# EAGLE library part PIC18F4680 (library microchip)
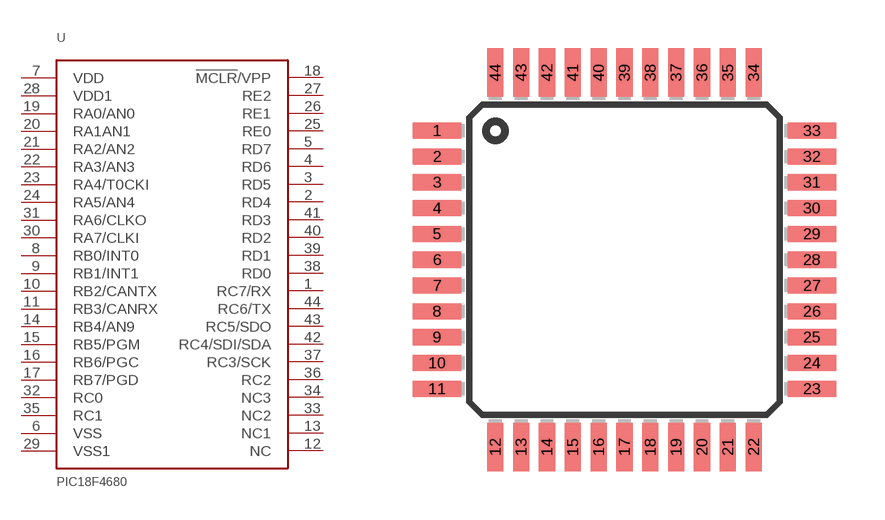
[diagram p0: symbol with the pads of TQFP44; footprint TQFP44]

Designator prefix -

## PIC18F4680  [TQFP44]
1  RC7/RX
2  RD4
3  RD5
4  RD6
5  RD7
6  VSS  pwr
7  VDD  pwr
8  RB0/INT0
9  RB1/INT1
10  RB2/CANTX
11  RB3/CANRX
12  NC  nc
13  NC1  nc
14  RB4/AN9
15  RB5/PGM
16  RB6/PGC
17  RB7/PGD
18  !MCLR!/VPP
19  RA0/AN0
20  RA1AN1
21  RA2/AN2
22  RA3/AN3
23  RA4/T0CKI
24  RA5/AN4
25  RE0
26  RE1
27  RE2
28  VDD1  pwr
29  VSS1  pwr
30  RA7/CLKI
31  RA6/CLKO
32  RC0
33  NC2  nc
34  NC3  nc
35  RC1
36  RC2
37  RC3/SCK
38  RD0
39  RD1
40  RD2
41  RD3
42  RC4/SDI/SDA
43  RC5/SDO
44  RC6/TX

## Footprint TQFP44 (pad centres in mm)
Thin Quad Flat Pack package type TQ
smd 1.5 x 0.5: 1 -5.8,4; 2 -5.8,3.2; 3 -5.8,2.4; 4 -5.8,1.6; 5 -5.8,0.8; 6 -5.8,0; 7 -5.8,-0.8; 8 -5.8,-1.6; 9 -5.8,-2.4; 10 -5.8,-3.2; 11 -5.8,-4; 23 5.8,-4; 24 5.8,-3.2; 25 5.8,-2.4; 26 5.8,-1.6; 27 5.8,-0.8; 28 5.8,0; 29 5.8,0.8; 30 5.8,1.6; 31 5.8,2.4; 32 5.8,3.2; 33 5.8,4
smd 0.5 x 1.5: 12 -4,-5.8; 13 -3.2,-5.8; 14 -2.4,-5.8; 15 -1.6,-5.8; 16 -0.8,-5.8; 17 0,-5.8; 18 0.8,-5.8; 19 1.6,-5.8; 20 2.4,-5.8; 21 3.2,-5.8; 22 4,-5.8; 34 4,5.8; 35 3.2,5.8; 36 2.4,5.8; 37 1.6,5.8; 38 0.8,5.8; 39 0,5.8; 40 -0.8,5.8; 41 -1.6,5.8; 42 -2.4,5.8; 43 -3.2,5.8; 44 -4,5.8